# Altium footprint library AltTab_PCB_Chip.PcbLib: 105 footprints (part 4 of 7)
Each footprint in its own frame and in the unit in brackets; x right, y up, seen from the top. Pads: shape width x height; smd on the part's side, far side on the other; paste and mask are expansions set on the pad; w line width, h text height; cw(c..) or ccw(c..) is an arc to the next point about the centre after c.
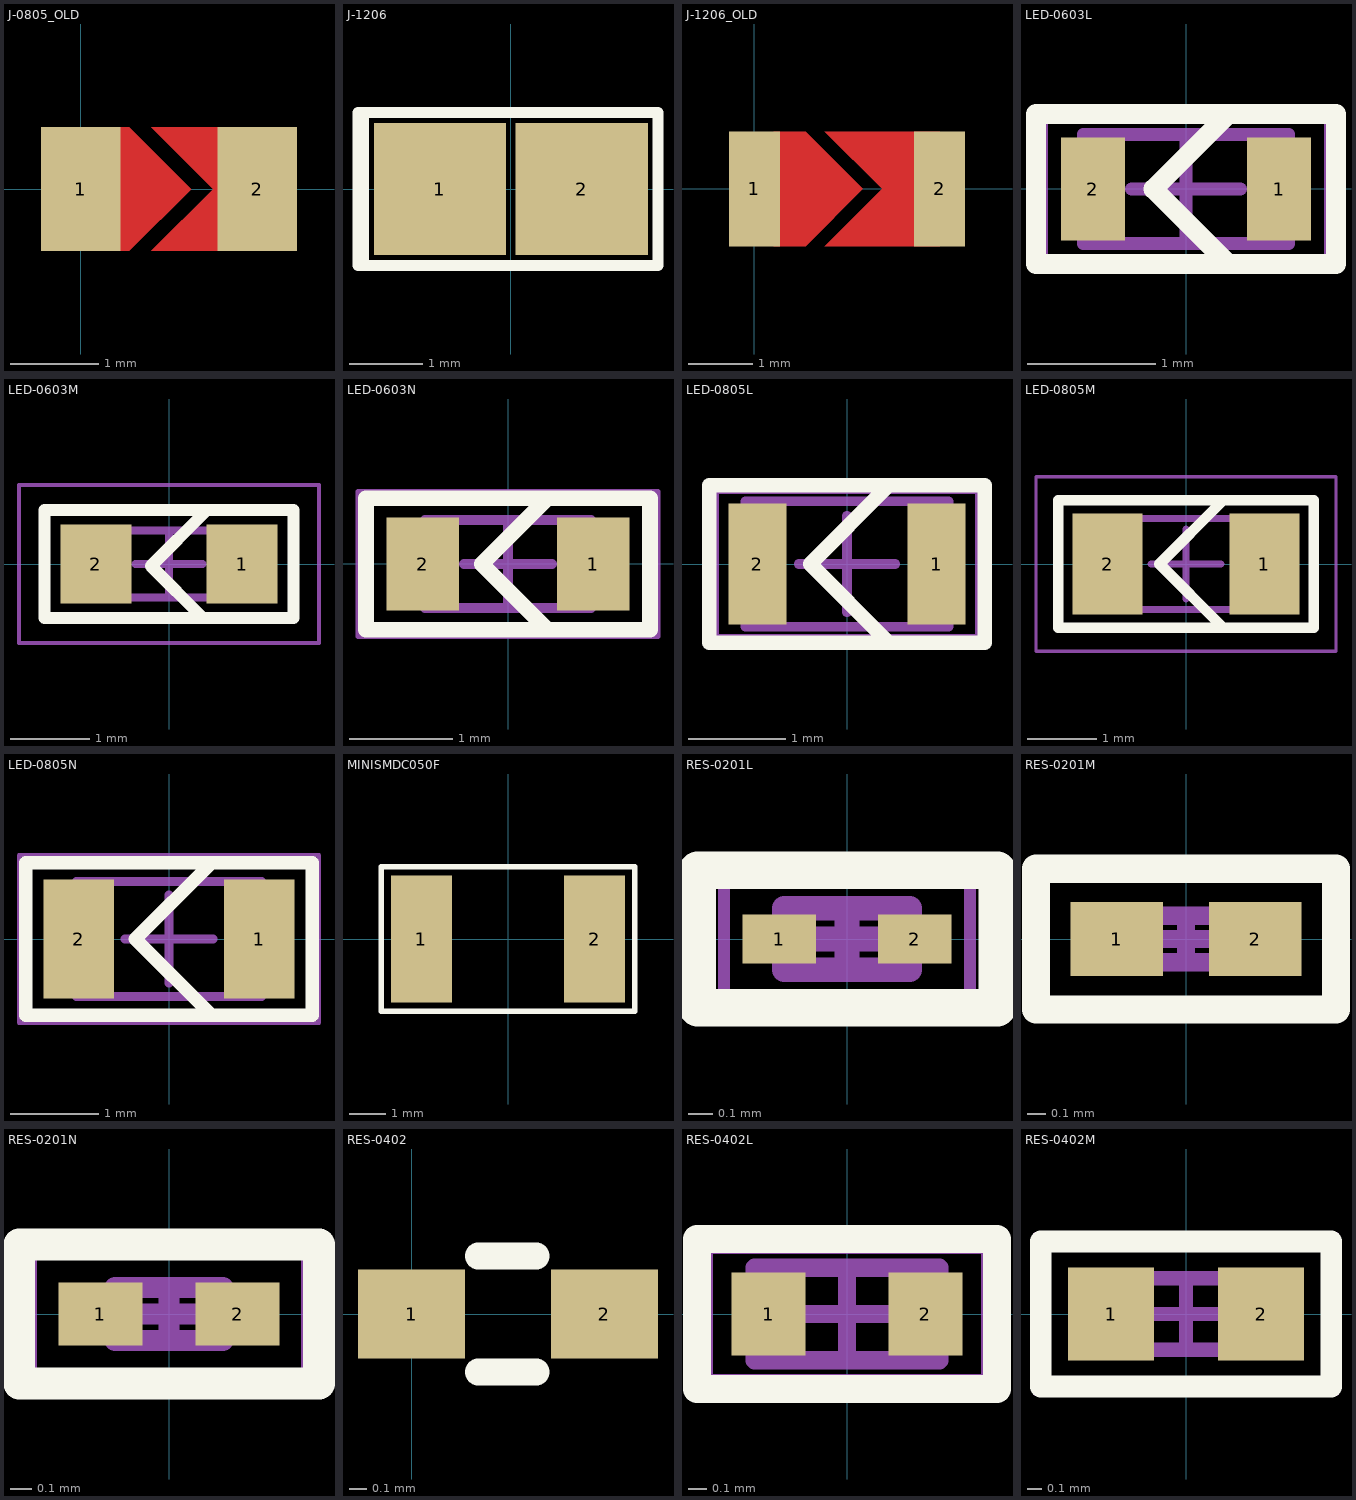
[diagram p3: the footprints below, top view; thin cyan lines are the x and y axes]

## J-0805_OLD [mm]
pads (2):
  rect 0.9x1.4 smd mask+0.05: 1(0,0) 2(2,0)
Top Layer:
  region: 0.8,-0.7 1.5,0 0.8,0.7 1.65,0.7 1.65,-0.7
  region: 0.8,-0.7
  region: 0.375,-0.7 0.55,-0.7 1.25,0 0.55,0.7 0.375,0.7

## J-1206 [mil]
pads (2):
  rect 71x70.87 smd mask+1.97: 1(-38,0) 2(38,0)
Top Overlay:
  lines w6: -76,-41 -82,-41 -82,-10 -82,41 -75,41 ; -20,-41 79,-41 79,-17 79,41 36,41 -79,41 -79,-11 -79,-41 -17,-41
3D body: height 21.65, standoff 0, extent 43.31,-31.5 61.02,31.5
3D body: height 21.65, standoff 0, extent -61.02,-31.5 -43.31,31.5
3D body: height 21.65, standoff 0, extent -43.31,-31.5 43.31,31.5

## J-1206_OLD [mm]
pads (2):
  rect 0.8x1.8 smd mask+0.05: 1(0,0) 2(2.9,0)
Top Layer:
  region: 1.1,-0.9 2,0 1.1,0.9 2.9,0.9 2.9,-0.9
  region: 0.3,-0.9 0.8,-0.9 1.7,0 0.8,0.9 0.3,0.9

## LED-0603L [mm] "Chip Resistor, 2-Leads, Body 1,60x0,85mm, IPC High Density"
height 0.45
pads (2):
  rect 0.5x0.8 smd: 1(0.725,0) 2(-0.725,0)
Top Overlay:
  lines w0.152: 0.33,-0.584 -0.254,0 0.33,0.584 ; 1.143,0.584 -1.169,0.584 -1.169,-0.584 1.168,-0.584 1.168,0.559 1.168,0.584
Assembly Top:
  lines w0.1: -0.8,-0.425 0.8,-0.425 0.8,0.425 -0.8,0.425 -0.8,-0.425
Courtyard Top:
  lines w0.05: -1.1,-0.55 1.1,-0.55 1.1,0.55 -1.1,0.55 -1.1,-0.55
  lines w0.1: -0.425,0 0.425,0 ; 0,-0.425 0,0.425
3D body "LED0603.step": height 0.6, standoff 0, extent -0.81,-0.4 0.81,0.4

## LED-0603M [mm] "Chip Resistor, 2-Leads, Body 1,60x0,85mm, IPC Low Density"
height 0.45
pads (2):
  rect 0.9x1 smd: 1(0.925,0) 2(-0.925,0)
Top Overlay:
  lines w0.152: 0.432,-0.686 -0.229,-0.025 0.457,0.66 ; 1.245,0.686 1.575,0.686 1.575,0.381 ; -1.575,-0.686 1.575,-0.686 1.575,0.66 1.549,0.686 -1.575,0.686 -1.575,-0.686
Assembly Top:
  lines w0.1: -0.8,-0.425 -0.8,0.425 0.8,0.425 0.8,-0.425 -0.8,-0.425
Courtyard Top:
  lines w0.05: -1.9,-1 -1.9,1 1.9,1 1.9,-1 -1.9,-1
  lines w0.1: -0.425,0 0.425,0 ; 0,-0.425 0,0.425
3D body "LED0603.step": height 0.6, standoff 0, extent -0.81,-0.4 0.81,0.4

## LED-0603N [mm] "Chip Resistor, 2-Leads, Body 1,60x0,85mm, IPC Medium Density"
height 0.45
pads (2):
  rect 0.7x0.9 smd: 1(0.825,0) 2(-0.825,0)
Top Overlay:
  lines w0.152: 0.381,-0.635 -0.254,0 0.381,0.635 ; 1.346,0.635 -1.372,0.635 -1.372,-0.635 1.372,-0.635 1.372,0.635
Assembly Top:
  lines w0.1: -0.8,-0.425 0.8,-0.425 0.8,0.425 -0.8,0.425 -0.8,-0.425
Courtyard Top:
  lines w0.05: -1.45,-0.7 1.45,-0.7 1.45,0.7 -1.45,0.7 -1.45,-0.7
  lines w0.1: -0.425,0 0.425,0 ; 0,-0.425 0,0.425
3D body "LED0603.step": height 0.6, standoff 0, extent -0.81,-0.4 0.81,0.4

## LED-0805L [mm] "Chip Resistor, 2-Leads, Body 2,10x1,30mm, IPC High Density"
height 0.5
pads (2):
  rect 0.6x1.25 smd: 1(0.925,0) 2(-0.925,0)
Top Overlay:
  lines w0.152: 0.432,-0.813 -0.381,0 0.432,0.813 ; -1.422,-0.813 1.422,-0.813 1.422,0.813 -1.422,0.813 -1.422,-0.813
Assembly Top:
  lines w0.1: -1.05,-0.65 -1.05,0.65 1.05,0.65 1.05,-0.65 -1.05,-0.65
Courtyard Top:
  lines w0.05: -1.35,-0.75 -1.35,0.75 1.35,0.75 1.35,-0.75 -1.35,-0.75
  lines w0.1: -0.5,0 0.5,0 ; 0,-0.5 0,0.5
3D body "led_0805 GREEN.step": height 1.1, standoff 0, extent -1.01,-0.625 1.01,0.625

## LED-0805M [mm] "Chip Resistor, 2-Leads, Body 2,10x1,30mm, IPC Low Density"
height 0.5
pads (2):
  rect 1x1.45 smd: 1(1.125,0) 2(-1.125,0)
Top Overlay:
  lines w0.152: 0.521,-0.902 -0.381,0 0.521,0.902 ; 1.245,0.914 1.829,0.914 1.829,-0.102 1.829,-0.914 1.803,-0.914 -1.829,-0.914 -1.829,0.914 1.803,0.914
Assembly Top:
  lines w0.1: -1.05,-0.65 1.05,-0.65 1.05,0.65 -1.05,0.65 -1.05,-0.65
Courtyard Top:
  lines w0.05: -2.15,-1.25 2.15,-1.25 2.15,1.25 -2.15,1.25 -2.15,-1.25
  lines w0.1: -0.5,0 0.5,0 ; 0,-0.5 0,0.5
3D body "led_0805 GREEN.step": height 1.1, standoff 0, extent -1.01,-0.625 1.01,0.625

## LED-0805N [mm] "Chip Resistor, 2-Leads, Body 2,10x1,30mm, IPC Medium Density"
height 0.5
pads (2):
  rect 0.8x1.35 smd: 1(1.025,0) 2(-1.025,0)
Top Overlay:
  lines w0.152: 0.483,-0.864 -0.381,0 0.483,0.864 ; 1.549,0.864 1.626,0.864 1.626,-0.864 -1.626,-0.864 -1.626,0.864 1.6,0.864
Assembly Top:
  lines w0.1: -1.05,-0.65 -1.05,0.65 1.05,0.65 1.05,-0.65 -1.05,-0.65
Courtyard Top:
  lines w0.05: -1.7,-0.95 -1.7,0.95 1.7,0.95 1.7,-0.95 -1.7,-0.95
  lines w0.1: -0.5,0 0.5,0 ; 0,-0.5 0,0.5
3D body "led_0805 GREEN.step": height 1.1, standoff 0, extent -1.01,-0.625 1.01,0.625

## MINISMDC050F [mm]
pads (2):
  rect 1.68x3.5 smd mask+0.05: 1(-2.39,0) 2(2.39,0)
Top Overlay:
  lines w0.15: -3.5,-2 -3.5,2 3.5,2 3.5,-2 -3.5,-2
3D body "Fuse 1812.STEP": height 1.03, standoff 0, extent -2.38,-1.715 2.355,1.765

## RES-0201L [mm] "Chip Resistor, 2-Leads, Body 0,51x0,25mm, IPC High Density"
height 0.23
pads (2):
  rect 0.3x0.2 smd: 1(-0.275,0) 2(0.275,0)
Top Overlay:
  lines w0.152: -0.61,-0.279 -0.584,-0.279 0.61,-0.279 0.61,0.279 -0.61,0.279 -0.61,-0.279
Assembly Top:
  lines w0.1: -0.255,-0.125 -0.255,0.125 0.255,0.125 0.255,-0.125 -0.255,-0.125
Courtyard Top:
  lines w0.05: -0.5,-0.25 -0.5,0.25 0.5,0.25 0.5,-0.25 -0.5,-0.25
  lines w0.1: -0.125,0 0.125,0 ; 0,-0.125 0,0.125
3D body "RESC0503X02L.step": height 0.23, standoff 0, extent -0.255,-0.125 0.255,0.125

## RES-0201M [mm] "Chip Resistor, 2-Leads, Body 0,51x0,25mm, IPC Low Density"
height 0.23
pads (2):
  rect 0.5x0.4 smd: 1(-0.375,0) 2(0.375,0)
Top Overlay:
  lines w0.152: -0.813,-0.381 -0.813,0.381 0.813,0.381 0.813,-0.381 -0.813,-0.381
Assembly Top:
  lines w0.1: -0.255,-0.125 -0.255,0.125 0.255,0.125 0.255,-0.125 -0.255,-0.125
Courtyard Top:
  lines w0.05: -0.8,-0.4 -0.8,0.4 0.8,0.4 0.8,-0.4 -0.8,-0.4
  lines w0.1: -0.125,0 0.125,0 ; 0,-0.125 0,0.125
3D body "RESC0503X02M.step": height 0.23, standoff 0, extent -0.255,-0.125 0.255,0.125

## RES-0201N [mm] "Chip Resistor, 2-Leads, Body 0,51x0,25mm, IPC Medium Density"
height 0.23
pads (2):
  rect 0.4x0.3 smd: 1(-0.325,0) 2(0.325,0)
Top Overlay:
  lines w0.152: -0.711,-0.33 -0.711,0.33 0.711,0.33 0.711,-0.33 -0.711,-0.33
Assembly Top:
  lines w0.1: -0.255,-0.125 -0.255,0.125 0.255,0.125 0.255,-0.125 -0.255,-0.125
Courtyard Top:
  lines w0.05: -0.65,-0.3 -0.65,0.3 0.65,0.3 0.65,-0.3 -0.65,-0.3
  lines w0.1: -0.125,0 0.125,0 ; 0,-0.125 0,0.125
3D body "RESC0503X02N.step": height 0.23, standoff 0, extent -0.255,-0.125 0.255,0.125

## RES-0402 [mm]
pads (2):
  rect 0.61x0.51 smd paste+0 mask+0.05: 1(0,0) 2(1.1,0)
Top Overlay:
  lines w0.152: 0.381,-0.33 0.711,-0.33 ; 0.381,0.33 0.711,0.33
3D body "RES 0402.step": height 0.34, standoff 0, extent 0.013,-0.3 1.053,0.3

## RES-0402L [mm] "Chip Resistor, 2-Leads, Body 1,00x0,50mm, IPC High Density"
height 0.35
pads (2):
  rect 0.4x0.45 smd: 1(-0.425,0) 2(0.425,0)
Top Overlay:
  lines w0.152: -0.813,-0.406 -0.813,0.406 0.813,0.406 0.813,-0.406 -0.813,-0.406
Assembly Top:
  lines w0.1: -0.5,-0.25 0.5,-0.25 0.5,0.25 -0.5,0.25 -0.5,-0.25
Courtyard Top:
  lines w0.05: -0.75,-0.35 0.75,-0.35 0.75,0.35 -0.75,0.35 -0.75,-0.35
  lines w0.1: -0.25,0 0.25,0 ; 0,-0.25 0,0.25
3D body "RESC1005X04L.step": height 0.35, standoff 0, extent -0.5,-0.25 0.5,0.25

## RES-0402M [mm] "Chip Resistor, 2-Leads, Body 1,00x0,50mm, IPC Low Density"
height 0.35
pads (2):
  rect 0.6x0.65 smd: 1(-0.525,0) 2(0.525,0)
Top Overlay:
  lines w0.152: -0.991,-0.508 1.016,-0.508 1.016,0.508 -1.016,0.508 -1.016,-0.508 -0.737,-0.508
Assembly Top:
  lines w0.1: -0.5,-0.25 -0.5,0.25 0.5,0.25 0.5,-0.25 -0.5,-0.25
Courtyard Top:
  lines w0.05: -1.05,-0.55 -1.05,0.55 1.05,0.55 1.05,-0.55 -1.05,-0.55
  lines w0.1: -0.25,0 0.25,0 ; 0,-0.25 0,0.25
3D body "RESC1005X04M.step": height 0.35, standoff 0, extent -0.5,-0.25 0.5,0.25